# Altium schematic symbol library K50-29.SchLib: 1 symbol
Pins are listed as number, name and electrical type; pins without a type are passive.

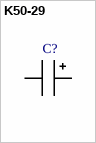
[diagram p0: symbol K50-29]

## K50-29
designator C?
Polarized Capasitor
footprint K50-29
pins: 0, 1